# EAGLE library part TC4426A (library custom)
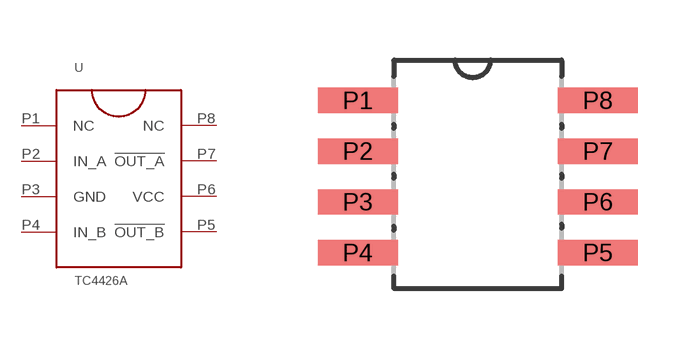
[diagram p3: symbol with the pads of SOIC8; footprint SOIC8]

Designator prefix -

## TC4426A  [SOIC8]
P1  NC  nc
P2  IN_A  in
P3  GND  pwr
P4  IN_B  in
P5  !OUT_B  out
P6  VCC  pwr
P7  !OUT_A  out
P8  NC  nc

## Footprint SOIC8 (pad centres in mm)
smd 2 x 0.635: P1 -3.04,1.91; P2 -3.04,0.64; P3 -3.04,-0.63; P4 -3.04,-1.9; P5 2.967,-1.9; P6 2.967,-0.63; P7 2.967,0.64; P8 2.967,1.91